# EAGLE library part ESP32DEVKITV1 (library NFR23_v1.1)
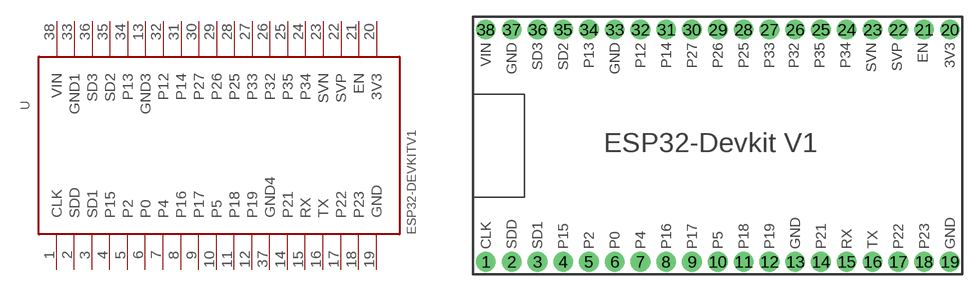
[diagram p1: symbol with the pads of ESP32-DEVKITV1; footprint ESP32-DEVKITV1]

Designator prefix -

## ESP32DEVKITV1  [ESP32-DEVKITV1]
1  CLK
2  SDD
3  SD1
4  P15
5  P2
6  P0
7  P4
8  P16
9  P17
10  P5
11  P18
12  P19
13  GND3
14  P21
15  RX
16  TX
17  P22
18  P23
19  GND
20  3V3
21  EN
22  SVP
23  SVN
24  P34
25  P35
26  P32
27  P33
28  P25
29  P26
30  P27
31  P14
32  P12
33  GND1
34  P13
35  SD2
36  SD3
37  GND4
38  VIN

## Footprint ESP32-DEVKITV1 (pad centres in mm)
drill 1.295: 1 -22.86,-12.7; 2 -20.32,-12.7; 3 -17.78,-12.7; 4 -15.25,-12.7; 5 -12.71,-12.7; 6 -10.16,-12.7; 7 -7.63,-12.7; 8 -5.09,-12.7; 9 -2.55,-12.7; 10 -0.01,-12.7; 11 2.53,-12.7; 12 5.07,-12.7; 13 7.62,-12.7; 14 10.15,-12.7; 15 12.69,-12.7; 16 15.23,-12.7; 17 17.77,-12.7; 18 20.31,-12.7; 19 22.85,-12.7; 20 22.87,10.16; 21 20.31,10.16; 22 17.77,10.16; 23 15.23,10.16; 24 12.69,10.16; 25 10.15,10.16; 26 7.61,10.16; 27 5.07,10.16; 28 2.53,10.16; 29 -0.01,10.16; 30 -2.55,10.16; 31 -5.09,10.16; 32 -7.63,10.16; 33 -10.17,10.16; 34 -12.71,10.16; 35 -15.24,10.16; 36 -17.78,10.16; 37 -20.32,10.16; 38 -22.87,10.16